# Altium footprint library con-leotronics.PCBLIB: 93 footprints (part 1 of 8)
Each footprint in its own frame and in the unit in brackets; x right, y up, seen from the top. Pads: shape width x height; smd on the part's side, far side on the other; paste and mask are expansions set on the pad; w line width, h text height; cw(c..) or ccw(c..) is an arc to the next point about the centre after c.
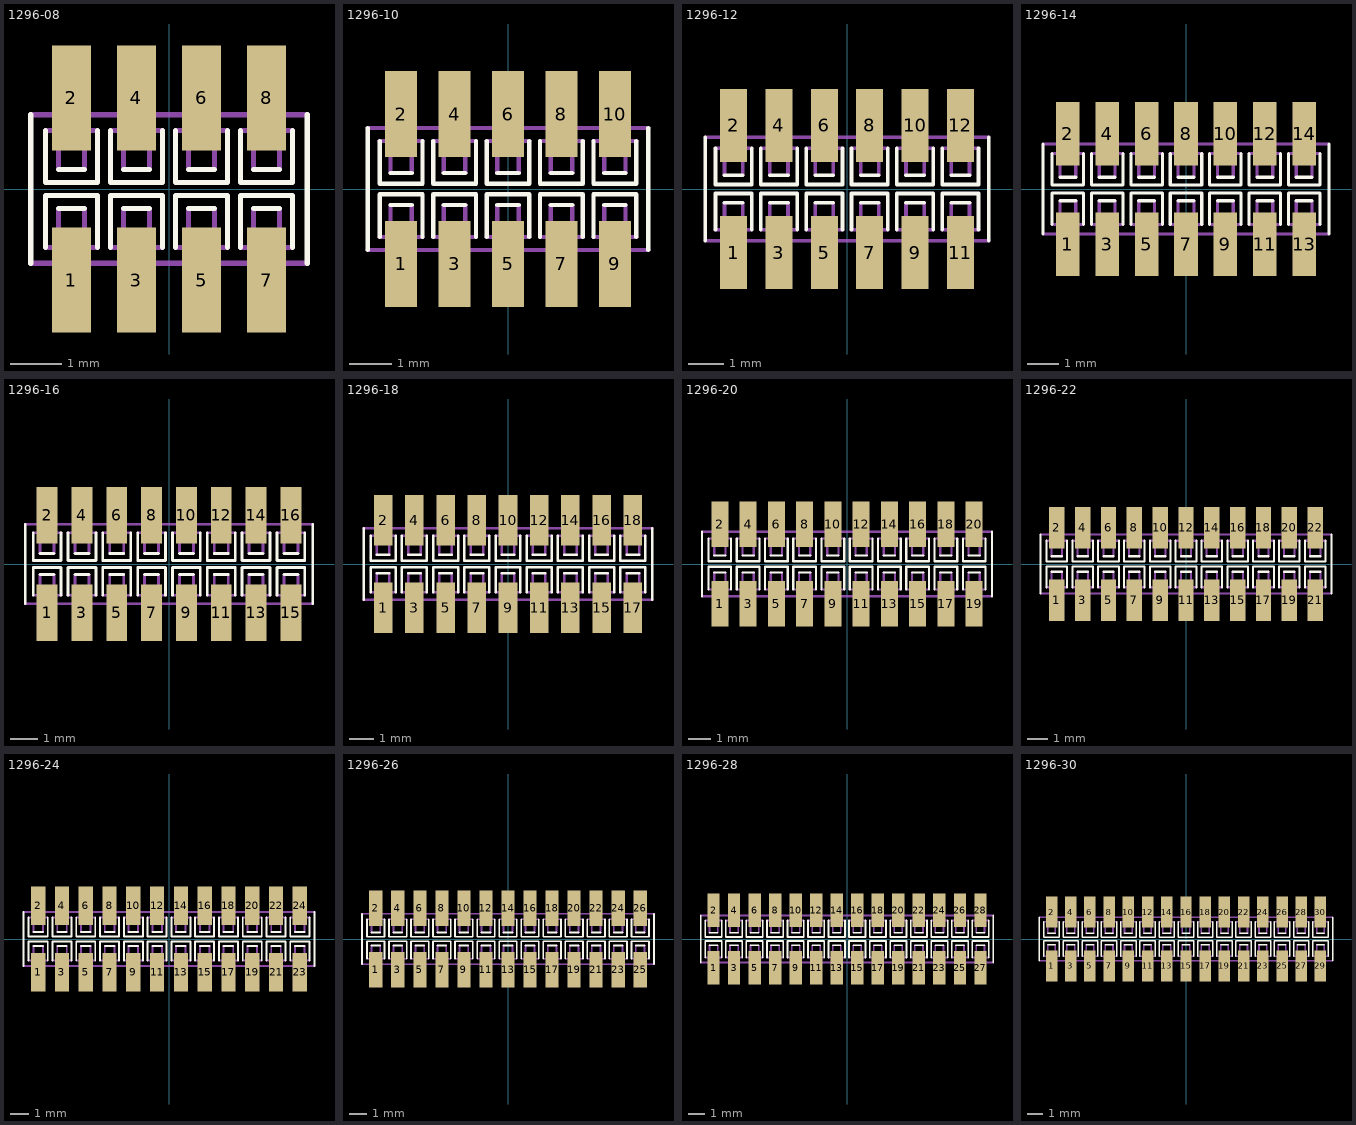
[diagram p0: the footprints below, top view; thin cyan lines are the x and y axes]

## 1296-08 [mm]
pads (8):
  rect 0.76x2.05 smd: 1(-1.905,-1.78) 2(-1.905,1.78) 3(-0.635,-1.78) 4(-0.635,1.78) 5(0.635,-1.78) 6(0.635,1.78) 7(1.905,-1.78) 8(1.905,1.78)
Top Overlay:
  lines w0.102: -2.7,-1.45 -2.7,1.45 ; -2.413,-1.143 -2.413,-0.127 -1.397,-0.127 -1.397,-1.143 ; -2.413,1.143 -2.413,0.127 -1.397,0.127 -1.397,1.143 ; -2.159,-0.381 -1.651,-0.381 ; -2.159,0.381 -1.651,0.381 ; -1.143,-1.143 -1.143,-0.127 -0.127,-0.127 -0.127,-1.143 ; -1.143,1.143 -1.143,0.127 -0.127,0.127 -0.127,1.143 ; -0.889,-0.381 -0.381,-0.381 ; -0.889,0.381 -0.381,0.381 ; 0.127,-1.143 0.127,-0.127 1.143,-0.127 1.143,-1.143 ; 0.127,1.143 0.127,0.127 1.143,0.127 1.143,1.143 ; 0.381,-0.381 0.889,-0.381 ; 0.381,0.381 0.889,0.381 ; 1.397,-1.143 1.397,-0.127 2.413,-0.127 2.413,-1.143 ; 1.397,1.143 1.397,0.127 2.413,0.127 2.413,1.143 ; 1.651,-0.381 2.159,-0.381 ; 1.651,0.381 2.159,0.381 ; 2.7,-1.45 2.7,1.45
Mechanical 16:
  lines w0.102: -2.7,-1.45 2.7,-1.45 ; -2.7,1.45 2.7,1.45 ; -2.413,-1.143 -1.397,-1.143 ; -2.413,1.143 -1.397,1.143 ; -2.159,-0.381 -2.159,-0.889 -1.651,-0.889 -1.651,-0.381 ; -2.159,0.381 -2.159,0.889 -1.651,0.889 -1.651,0.381 ; -1.143,-1.143 -0.127,-1.143 ; -1.143,1.143 -0.127,1.143 ; -0.889,-0.381 -0.889,-0.889 -0.381,-0.889 -0.381,-0.381 ; -0.889,0.381 -0.889,0.889 -0.381,0.889 -0.381,0.381 ; 0.127,-1.143 1.143,-1.143 ; 0.127,1.143 1.143,1.143 ; 0.381,-0.381 0.381,-0.889 0.889,-0.889 0.889,-0.381 ; 0.381,0.381 0.381,0.889 0.889,0.889 0.889,0.381 ; 1.397,-1.143 2.413,-1.143 ; 1.397,1.143 2.413,1.143 ; 1.651,-0.381 1.651,-0.889 2.159,-0.889 2.159,-0.381 ; 1.651,0.381 1.651,0.889 2.159,0.889 2.159,0.381

## 1296-10 [mm]
pads (10):
  rect 0.76x2.05 smd: 1(-2.54,-1.78) 2(-2.54,1.78) 3(-1.27,-1.78) 4(-1.27,1.78) 5(0,-1.78) 6(0,1.78) 7(1.27,-1.78) 8(1.27,1.78) 9(2.54,-1.78) 10(2.54,1.78)
Top Overlay:
  lines w0.102: -3.335,-1.45 -3.335,1.45 ; -3.048,-1.143 -3.048,-0.127 -2.032,-0.127 -2.032,-1.143 ; -3.048,1.143 -3.048,0.127 -2.032,0.127 -2.032,1.143 ; -2.794,-0.381 -2.286,-0.381 ; -2.794,0.381 -2.286,0.381 ; -1.778,-1.143 -1.778,-0.127 -0.762,-0.127 -0.762,-1.143 ; -1.778,1.143 -1.778,0.127 -0.762,0.127 -0.762,1.143 ; -1.524,-0.381 -1.016,-0.381 ; -1.524,0.381 -1.016,0.381 ; -0.508,-1.143 -0.508,-0.127 0.508,-0.127 0.508,-1.143 ; -0.508,1.143 -0.508,0.127 0.508,0.127 0.508,1.143 ; -0.254,-0.381 0.254,-0.381 ; -0.254,0.381 0.254,0.381 ; 0.762,-1.143 0.762,-0.127 1.778,-0.127 1.778,-1.143 ; 0.762,1.143 0.762,0.127 1.778,0.127 1.778,1.143 ; 1.016,-0.381 1.524,-0.381 ; 1.016,0.381 1.524,0.381 ; 2.032,-1.143 2.032,-0.127 3.048,-0.127 3.048,-1.143 ; 2.032,1.143 2.032,0.127 3.048,0.127 3.048,1.143 ; 2.286,-0.381 2.794,-0.381 ; 2.286,0.381 2.794,0.381 ; 3.335,-1.45 3.335,1.45
Mechanical 16:
  lines w0.102: -3.335,-1.45 3.335,-1.45 ; -3.335,1.45 3.335,1.45 ; -3.048,-1.143 -2.032,-1.143 ; -3.048,1.143 -2.032,1.143 ; -2.794,-0.381 -2.794,-0.889 -2.286,-0.889 -2.286,-0.381 ; -2.794,0.381 -2.794,0.889 -2.286,0.889 -2.286,0.381 ; -1.778,-1.143 -0.762,-1.143 ; -1.778,1.143 -0.762,1.143 ; -1.524,-0.381 -1.524,-0.889 -1.016,-0.889 -1.016,-0.381 ; -1.524,0.381 -1.524,0.889 -1.016,0.889 -1.016,0.381 ; -0.508,-1.143 0.508,-1.143 ; -0.508,1.143 0.508,1.143 ; -0.254,-0.381 -0.254,-0.889 0.254,-0.889 0.254,-0.381 ; -0.254,0.381 -0.254,0.889 0.254,0.889 0.254,0.381 ; 0.762,-1.143 1.778,-1.143 ; 0.762,1.143 1.778,1.143 ; 1.016,-0.381 1.016,-0.889 1.524,-0.889 1.524,-0.381 ; 1.016,0.381 1.016,0.889 1.524,0.889 1.524,0.381 ; 2.032,-1.143 3.048,-1.143 ; 2.032,1.143 3.048,1.143 ; 2.286,-0.381 2.286,-0.889 2.794,-0.889 2.794,-0.381 ; 2.286,0.381 2.286,0.889 2.794,0.889 2.794,0.381

## 1296-12 [mm]
pads (12):
  rect 0.76x2.05 smd: 1(-3.175,-1.78) 2(-3.175,1.78) 3(-1.905,-1.78) 4(-1.905,1.78) 5(-0.635,-1.78) 6(-0.635,1.78) 7(0.635,-1.78) 8(0.635,1.78) 9(1.905,-1.78) 10(1.905,1.78) 11(3.175,-1.78) 12(3.175,1.78)
Top Overlay:
  lines w0.102: -3.97,-1.45 -3.97,1.45 ; -3.683,-1.143 -3.683,-0.127 -2.667,-0.127 -2.667,-1.143 ; -3.683,1.143 -3.683,0.127 -2.667,0.127 -2.667,1.143 ; -3.429,-0.381 -2.921,-0.381 ; -3.429,0.381 -2.921,0.381 ; -2.413,-1.143 -2.413,-0.127 -1.397,-0.127 -1.397,-1.143 ; -2.413,1.143 -2.413,0.127 -1.397,0.127 -1.397,1.143 ; -2.159,-0.381 -1.651,-0.381 ; -2.159,0.381 -1.651,0.381 ; -1.143,-1.143 -1.143,-0.127 -0.127,-0.127 -0.127,-1.143 ; -1.143,1.143 -1.143,0.127 -0.127,0.127 -0.127,1.143 ; -0.889,-0.381 -0.381,-0.381 ; -0.889,0.381 -0.381,0.381 ; 0.127,-1.143 0.127,-0.127 1.143,-0.127 1.143,-1.143 ; 0.127,1.143 0.127,0.127 1.143,0.127 1.143,1.143 ; 0.381,-0.381 0.889,-0.381 ; 0.381,0.381 0.889,0.381 ; 1.397,-1.143 1.397,-0.127 2.413,-0.127 2.413,-1.143 ; 1.397,1.143 1.397,0.127 2.413,0.127 2.413,1.143 ; 1.651,-0.381 2.159,-0.381 ; 1.651,0.381 2.159,0.381 ; 2.667,-1.143 2.667,-0.127 3.683,-0.127 3.683,-1.143 ; 2.667,1.143 2.667,0.127 3.683,0.127 3.683,1.143 ; 2.921,-0.381 3.429,-0.381 ; 2.921,0.381 3.429,0.381 ; 3.97,-1.45 3.97,1.45
Mechanical 16:
  lines w0.102: -3.97,-1.45 3.97,-1.45 ; -3.97,1.45 3.97,1.45 ; -3.683,-1.143 -2.667,-1.143 ; -3.683,1.143 -2.667,1.143 ; -3.429,-0.381 -3.429,-0.889 -2.921,-0.889 -2.921,-0.381 ; -3.429,0.381 -3.429,0.889 -2.921,0.889 -2.921,0.381 ; -2.413,-1.143 -1.397,-1.143 ; -2.413,1.143 -1.397,1.143 ; -2.159,-0.381 -2.159,-0.889 -1.651,-0.889 -1.651,-0.381 ; -2.159,0.381 -2.159,0.889 -1.651,0.889 -1.651,0.381 ; -1.143,-1.143 -0.127,-1.143 ; -1.143,1.143 -0.127,1.143 ; -0.889,-0.381 -0.889,-0.889 -0.381,-0.889 -0.381,-0.381 ; -0.889,0.381 -0.889,0.889 -0.381,0.889 -0.381,0.381 ; 0.127,-1.143 1.143,-1.143 ; 0.127,1.143 1.143,1.143 ; 0.381,-0.381 0.381,-0.889 0.889,-0.889 0.889,-0.381 ; 0.381,0.381 0.381,0.889 0.889,0.889 0.889,0.381 ; 1.397,-1.143 2.413,-1.143 ; 1.397,1.143 2.413,1.143 ; 1.651,-0.381 1.651,-0.889 2.159,-0.889 2.159,-0.381 ; 1.651,0.381 1.651,0.889 2.159,0.889 2.159,0.381 ; 2.667,-1.143 3.683,-1.143 ; 2.667,1.143 3.683,1.143 ; 2.921,-0.381 2.921,-0.889 3.429,-0.889 3.429,-0.381 ; 2.921,0.381 2.921,0.889 3.429,0.889 3.429,0.381

## 1296-14 [mm]
pads (14):
  rect 0.76x2.05 smd: 1(-3.81,-1.78) 2(-3.81,1.78) 3(-2.54,-1.78) 4(-2.54,1.78) 5(-1.27,-1.78) 6(-1.27,1.78) 7(0,-1.78) 8(0,1.78) 9(1.27,-1.78) 10(1.27,1.78) 11(2.54,-1.78) 12(2.54,1.78) 13(3.81,-1.78) 14(3.81,1.78)
Top Overlay:
  lines w0.102: -4.605,-1.45 -4.605,1.45 ; -4.318,-1.143 -4.318,-0.127 -3.302,-0.127 -3.302,-1.143 ; -4.318,1.143 -4.318,0.127 -3.302,0.127 -3.302,1.143 ; -4.064,-0.381 -3.556,-0.381 ; -4.064,0.381 -3.556,0.381 ; -3.048,-1.143 -3.048,-0.127 -2.032,-0.127 -2.032,-1.143 ; -3.048,1.143 -3.048,0.127 -2.032,0.127 -2.032,1.143 ; -2.794,-0.381 -2.286,-0.381 ; -2.794,0.381 -2.286,0.381 ; -1.778,-1.143 -1.778,-0.127 -0.762,-0.127 -0.762,-1.143 ; -1.778,1.143 -1.778,0.127 -0.762,0.127 -0.762,1.143 ; -1.524,-0.381 -1.016,-0.381 ; -1.524,0.381 -1.016,0.381 ; -0.508,-1.143 -0.508,-0.127 0.508,-0.127 0.508,-1.143 ; -0.508,1.143 -0.508,0.127 0.508,0.127 0.508,1.143 ; -0.254,-0.381 0.254,-0.381 ; -0.254,0.381 0.254,0.381 ; 0.762,-1.143 0.762,-0.127 1.778,-0.127 1.778,-1.143 ; 0.762,1.143 0.762,0.127 1.778,0.127 1.778,1.143 ; 1.016,-0.381 1.524,-0.381 ; 1.016,0.381 1.524,0.381 ; 2.032,-1.143 2.032,-0.127 3.048,-0.127 3.048,-1.143 ; 2.032,1.143 2.032,0.127 3.048,0.127 3.048,1.143 ; 2.286,-0.381 2.794,-0.381 ; 2.286,0.381 2.794,0.381 ; 3.302,-1.143 3.302,-0.127 4.318,-0.127 4.318,-1.143 ; 3.302,1.143 3.302,0.127 4.318,0.127 4.318,1.143 ; 3.556,-0.381 4.064,-0.381 ; 3.556,0.381 4.064,0.381 ; 4.605,-1.45 4.605,1.45
Mechanical 16:
  lines w0.102: -4.605,-1.45 4.605,-1.45 ; -4.605,1.45 4.605,1.45 ; -4.318,-1.143 -3.302,-1.143 ; -4.318,1.143 -3.302,1.143 ; -4.064,-0.381 -4.064,-0.889 -3.556,-0.889 -3.556,-0.381 ; -4.064,0.381 -4.064,0.889 -3.556,0.889 -3.556,0.381 ; -3.048,-1.143 -2.032,-1.143 ; -3.048,1.143 -2.032,1.143 ; -2.794,-0.381 -2.794,-0.889 -2.286,-0.889 -2.286,-0.381 ; -2.794,0.381 -2.794,0.889 -2.286,0.889 -2.286,0.381 ; -1.778,-1.143 -0.762,-1.143 ; -1.778,1.143 -0.762,1.143 ; -1.524,-0.381 -1.524,-0.889 -1.016,-0.889 -1.016,-0.381 ; -1.524,0.381 -1.524,0.889 -1.016,0.889 -1.016,0.381 ; -0.508,-1.143 0.508,-1.143 ; -0.508,1.143 0.508,1.143 ; -0.254,-0.381 -0.254,-0.889 0.254,-0.889 0.254,-0.381 ; -0.254,0.381 -0.254,0.889 0.254,0.889 0.254,0.381 ; 0.762,-1.143 1.778,-1.143 ; 0.762,1.143 1.778,1.143 ; 1.016,-0.381 1.016,-0.889 1.524,-0.889 1.524,-0.381 ; 1.016,0.381 1.016,0.889 1.524,0.889 1.524,0.381 ; 2.032,-1.143 3.048,-1.143 ; 2.032,1.143 3.048,1.143 ; 2.286,-0.381 2.286,-0.889 2.794,-0.889 2.794,-0.381 ; 2.286,0.381 2.286,0.889 2.794,0.889 2.794,0.381 ; 3.302,-1.143 4.318,-1.143 ; 3.302,1.143 4.318,1.143 ; 3.556,-0.381 3.556,-0.889 4.064,-0.889 4.064,-0.381 ; 3.556,0.381 3.556,0.889 4.064,0.889 4.064,0.381

## 1296-16 [mm]
pads (16):
  rect 0.76x2.05 smd: 1(-4.445,-1.78) 2(-4.445,1.78) 3(-3.175,-1.78) 4(-3.175,1.78) 5(-1.905,-1.78) 6(-1.905,1.78) 7(-0.635,-1.78) 8(-0.635,1.78) 9(0.635,-1.78) 10(0.635,1.78) 11(1.905,-1.78) 12(1.905,1.78) 13(3.175,-1.78) 14(3.175,1.78) 15(4.445,-1.78) 16(4.445,1.78)
Top Overlay:
  lines w0.102: -5.24,-1.45 -5.24,1.45 ; -4.953,-1.143 -4.953,-0.127 -3.937,-0.127 -3.937,-1.143 ; -4.953,1.143 -4.953,0.127 -3.937,0.127 -3.937,1.143 ; -4.699,-0.381 -4.191,-0.381 ; -4.699,0.381 -4.191,0.381 ; -3.683,-1.143 -3.683,-0.127 -2.667,-0.127 -2.667,-1.143 ; -3.683,1.143 -3.683,0.127 -2.667,0.127 -2.667,1.143 ; -3.429,-0.381 -2.921,-0.381 ; -3.429,0.381 -2.921,0.381 ; -2.413,-1.143 -2.413,-0.127 -1.397,-0.127 -1.397,-1.143 ; -2.413,1.143 -2.413,0.127 -1.397,0.127 -1.397,1.143 ; -2.159,-0.381 -1.651,-0.381 ; -2.159,0.381 -1.651,0.381 ; -1.143,-1.143 -1.143,-0.127 -0.127,-0.127 -0.127,-1.143 ; -1.143,1.143 -1.143,0.127 -0.127,0.127 -0.127,1.143 ; -0.889,-0.381 -0.381,-0.381 ; -0.889,0.381 -0.381,0.381 ; 0.127,-1.143 0.127,-0.127 1.143,-0.127 1.143,-1.143 ; 0.127,1.143 0.127,0.127 1.143,0.127 1.143,1.143 ; 0.381,-0.381 0.889,-0.381 ; 0.381,0.381 0.889,0.381 ; 1.397,-1.143 1.397,-0.127 2.413,-0.127 2.413,-1.143 ; 1.397,1.143 1.397,0.127 2.413,0.127 2.413,1.143 ; 1.651,-0.381 2.159,-0.381 ; 1.651,0.381 2.159,0.381 ; 2.667,-1.143 2.667,-0.127 3.683,-0.127 3.683,-1.143 ; 2.667,1.143 2.667,0.127 3.683,0.127 3.683,1.143 ; 2.921,-0.381 3.429,-0.381 ; 2.921,0.381 3.429,0.381 ; 3.937,-1.143 3.937,-0.127 4.953,-0.127 4.953,-1.143 ; 3.937,1.143 3.937,0.127 4.953,0.127 4.953,1.143 ; 4.191,-0.381 4.699,-0.381 ; 4.191,0.381 4.699,0.381 ; 5.24,-1.45 5.24,1.45
Mechanical 16:
  lines w0.102: -5.24,-1.45 5.24,-1.45 ; -5.24,1.45 5.24,1.45 ; -4.953,-1.143 -3.937,-1.143 ; -4.953,1.143 -3.937,1.143 ; -4.699,-0.381 -4.699,-0.889 -4.191,-0.889 -4.191,-0.381 ; -4.699,0.381 -4.699,0.889 -4.191,0.889 -4.191,0.381 ; -3.683,-1.143 -2.667,-1.143 ; -3.683,1.143 -2.667,1.143 ; -3.429,-0.381 -3.429,-0.889 -2.921,-0.889 -2.921,-0.381 ; -3.429,0.381 -3.429,0.889 -2.921,0.889 -2.921,0.381 ; -2.413,-1.143 -1.397,-1.143 ; -2.413,1.143 -1.397,1.143 ; -2.159,-0.381 -2.159,-0.889 -1.651,-0.889 -1.651,-0.381 ; -2.159,0.381 -2.159,0.889 -1.651,0.889 -1.651,0.381 ; -1.143,-1.143 -0.127,-1.143 ; -1.143,1.143 -0.127,1.143 ; -0.889,-0.381 -0.889,-0.889 -0.381,-0.889 -0.381,-0.381 ; -0.889,0.381 -0.889,0.889 -0.381,0.889 -0.381,0.381 ; 0.127,-1.143 1.143,-1.143 ; 0.127,1.143 1.143,1.143 ; 0.381,-0.381 0.381,-0.889 0.889,-0.889 0.889,-0.381 ; 0.381,0.381 0.381,0.889 0.889,0.889 0.889,0.381 ; 1.397,-1.143 2.413,-1.143 ; 1.397,1.143 2.413,1.143 ; 1.651,-0.381 1.651,-0.889 2.159,-0.889 2.159,-0.381 ; 1.651,0.381 1.651,0.889 2.159,0.889 2.159,0.381 ; 2.667,-1.143 3.683,-1.143 ; 2.667,1.143 3.683,1.143 ; 2.921,-0.381 2.921,-0.889 3.429,-0.889 3.429,-0.381 ; 2.921,0.381 2.921,0.889 3.429,0.889 3.429,0.381 ; 3.937,-1.143 4.953,-1.143 ; 3.937,1.143 4.953,1.143 ; 4.191,-0.381 4.191,-0.889 4.699,-0.889 4.699,-0.381 ; 4.191,0.381 4.191,0.889 4.699,0.889 4.699,0.381

## 1296-18 [mm]
pads (18):
  rect 0.76x2.05 smd: 1(-5.08,-1.78) 2(-5.08,1.78) 3(-3.81,-1.78) 4(-3.81,1.78) 5(-2.54,-1.78) 6(-2.54,1.78) 7(-1.27,-1.78) 8(-1.27,1.78) 9(0,-1.78) 10(0,1.78) 11(1.27,-1.78) 12(1.27,1.78) 13(2.54,-1.78) 14(2.54,1.78) 15(3.81,-1.78) 16(3.81,1.78) 17(5.08,-1.78) 18(5.08,1.78)
Top Overlay:
  lines w0.102: -5.875,-1.45 -5.875,1.45 ; -5.588,-1.143 -5.588,-0.127 -4.572,-0.127 -4.572,-1.143 ; -5.588,1.143 -5.588,0.127 -4.572,0.127 -4.572,1.143 ; -5.334,-0.381 -4.826,-0.381 ; -5.334,0.381 -4.826,0.381 ; -4.318,-1.143 -4.318,-0.127 -3.302,-0.127 -3.302,-1.143 ; -4.318,1.143 -4.318,0.127 -3.302,0.127 -3.302,1.143 ; -4.064,-0.381 -3.556,-0.381 ; -4.064,0.381 -3.556,0.381 ; -3.048,-1.143 -3.048,-0.127 -2.032,-0.127 -2.032,-1.143 ; -3.048,1.143 -3.048,0.127 -2.032,0.127 -2.032,1.143 ; -2.794,-0.381 -2.286,-0.381 ; -2.794,0.381 -2.286,0.381 ; -1.778,-1.143 -1.778,-0.127 -0.762,-0.127 -0.762,-1.143 ; -1.778,1.143 -1.778,0.127 -0.762,0.127 -0.762,1.143 ; -1.524,-0.381 -1.016,-0.381 ; -1.524,0.381 -1.016,0.381 ; -0.508,-1.143 -0.508,-0.127 0.508,-0.127 0.508,-1.143 ; -0.508,1.143 -0.508,0.127 0.508,0.127 0.508,1.143 ; -0.254,-0.381 0.254,-0.381 ; -0.254,0.381 0.254,0.381 ; 0.762,-1.143 0.762,-0.127 1.778,-0.127 1.778,-1.143 ; 0.762,1.143 0.762,0.127 1.778,0.127 1.778,1.143 ; 1.016,-0.381 1.524,-0.381 ; 1.016,0.381 1.524,0.381 ; 2.032,-1.143 2.032,-0.127 3.048,-0.127 3.048,-1.143 ; 2.032,1.143 2.032,0.127 3.048,0.127 3.048,1.143 ; 2.286,-0.381 2.794,-0.381 ; 2.286,0.381 2.794,0.381 ; 3.302,-1.143 3.302,-0.127 4.318,-0.127 4.318,-1.143 ; 3.302,1.143 3.302,0.127 4.318,0.127 4.318,1.143 ; 3.556,-0.381 4.064,-0.381 ; 3.556,0.381 4.064,0.381 ; 4.572,-1.143 4.572,-0.127 5.588,-0.127 5.588,-1.143 ; 4.572,1.143 4.572,0.127 5.588,0.127 5.588,1.143 ; 4.826,-0.381 5.334,-0.381 ; 4.826,0.381 5.334,0.381 ; 5.875,-1.45 5.875,1.45
Mechanical 16:
  lines w0.102: -5.875,-1.45 5.875,-1.45 ; -5.875,1.45 5.875,1.45 ; -5.588,-1.143 -4.572,-1.143 ; -5.588,1.143 -4.572,1.143 ; -5.334,-0.381 -5.334,-0.889 -4.826,-0.889 -4.826,-0.381 ; -5.334,0.381 -5.334,0.889 -4.826,0.889 -4.826,0.381 ; -4.318,-1.143 -3.302,-1.143 ; -4.318,1.143 -3.302,1.143 ; -4.064,-0.381 -4.064,-0.889 -3.556,-0.889 -3.556,-0.381 ; -4.064,0.381 -4.064,0.889 -3.556,0.889 -3.556,0.381 ; -3.048,-1.143 -2.032,-1.143 ; -3.048,1.143 -2.032,1.143 ; -2.794,-0.381 -2.794,-0.889 -2.286,-0.889 -2.286,-0.381 ; -2.794,0.381 -2.794,0.889 -2.286,0.889 -2.286,0.381 ; -1.778,-1.143 -0.762,-1.143 ; -1.778,1.143 -0.762,1.143 ; -1.524,-0.381 -1.524,-0.889 -1.016,-0.889 -1.016,-0.381 ; -1.524,0.381 -1.524,0.889 -1.016,0.889 -1.016,0.381 ; -0.508,-1.143 0.508,-1.143 ; -0.508,1.143 0.508,1.143 ; -0.254,-0.381 -0.254,-0.889 0.254,-0.889 0.254,-0.381 ; -0.254,0.381 -0.254,0.889 0.254,0.889 0.254,0.381 ; 0.762,-1.143 1.778,-1.143 ; 0.762,1.143 1.778,1.143 ; 1.016,-0.381 1.016,-0.889 1.524,-0.889 1.524,-0.381 ; 1.016,0.381 1.016,0.889 1.524,0.889 1.524,0.381 ; 2.032,-1.143 3.048,-1.143 ; 2.032,1.143 3.048,1.143 ; 2.286,-0.381 2.286,-0.889 2.794,-0.889 2.794,-0.381 ; 2.286,0.381 2.286,0.889 2.794,0.889 2.794,0.381 ; 3.302,-1.143 4.318,-1.143 ; 3.302,1.143 4.318,1.143 ; 3.556,-0.381 3.556,-0.889 4.064,-0.889 4.064,-0.381 ; 3.556,0.381 3.556,0.889 4.064,0.889 4.064,0.381 ; 4.572,-1.143 5.588,-1.143 ; 4.572,1.143 5.588,1.143 ; 4.826,-0.381 4.826,-0.889 5.334,-0.889 5.334,-0.381 ; 4.826,0.381 4.826,0.889 5.334,0.889 5.334,0.381

## 1296-20 [mm]
pads (20):
  rect 0.76x2.05 smd: 1(-5.715,-1.78) 2(-5.715,1.78) 3(-4.445,-1.78) 4(-4.445,1.78) 5(-3.175,-1.78) 6(-3.175,1.78) 7(-1.905,-1.78) 8(-1.905,1.78) 9(-0.635,-1.78) 10(-0.635,1.78) 11(0.635,-1.78) 12(0.635,1.78) 13(1.905,-1.78) 14(1.905,1.78) 15(3.175,-1.78) 16(3.175,1.78) 17(4.445,-1.78) 18(4.445,1.78) 19(5.715,-1.78) 20(5.715,1.78)
Top Overlay:
  lines w0.102: -6.51,-1.45 -6.51,1.45 ; -6.223,-1.143 -6.223,-0.127 -5.207,-0.127 -5.207,-1.143 ; -6.223,1.143 -6.223,0.127 -5.207,0.127 -5.207,1.143 ; -5.969,-0.381 -5.461,-0.381 ; -5.969,0.381 -5.461,0.381 ; -4.953,-1.143 -4.953,-0.127 -3.937,-0.127 -3.937,-1.143 ; -4.953,1.143 -4.953,0.127 -3.937,0.127 -3.937,1.143 ; -4.699,-0.381 -4.191,-0.381 ; -4.699,0.381 -4.191,0.381 ; -3.683,-1.143 -3.683,-0.127 -2.667,-0.127 -2.667,-1.143 ; -3.683,1.143 -3.683,0.127 -2.667,0.127 -2.667,1.143 ; -3.429,-0.381 -2.921,-0.381 ; -3.429,0.381 -2.921,0.381 ; -2.413,-1.143 -2.413,-0.127 -1.397,-0.127 -1.397,-1.143 ; -2.413,1.143 -2.413,0.127 -1.397,0.127 -1.397,1.143 ; -2.159,-0.381 -1.651,-0.381 ; -2.159,0.381 -1.651,0.381 ; -1.143,-1.143 -1.143,-0.127 -0.127,-0.127 -0.127,-1.143 ; -1.143,1.143 -1.143,0.127 -0.127,0.127 -0.127,1.143 ; -0.889,-0.381 -0.381,-0.381 ; -0.889,0.381 -0.381,0.381 ; 0.127,-1.143 0.127,-0.127 1.143,-0.127 1.143,-1.143 ; 0.127,1.143 0.127,0.127 1.143,0.127 1.143,1.143 ; 0.381,-0.381 0.889,-0.381 ; 0.381,0.381 0.889,0.381 ; 1.397,-1.143 1.397,-0.127 2.413,-0.127 2.413,-1.143 ; 1.397,1.143 1.397,0.127 2.413,0.127 2.413,1.143 ; 1.651,-0.381 2.159,-0.381 ; 1.651,0.381 2.159,0.381 ; 2.667,-1.143 2.667,-0.127 3.683,-0.127 3.683,-1.143 ; 2.667,1.143 2.667,0.127 3.683,0.127 3.683,1.143 ; 2.921,-0.381 3.429,-0.381 ; 2.921,0.381 3.429,0.381 ; 3.937,-1.143 3.937,-0.127 4.953,-0.127 4.953,-1.143 ; 3.937,1.143 3.937,0.127 4.953,0.127 4.953,1.143 ; 4.191,-0.381 4.699,-0.381 ; 4.191,0.381 4.699,0.381 ; 5.207,-1.143 5.207,-0.127 6.223,-0.127 6.223,-1.143 ; 5.207,1.143 5.207,0.127 6.223,0.127 6.223,1.143 ; 5.461,-0.381 5.969,-0.381 ; 5.461,0.381 5.969,0.381 ; 6.51,-1.45 6.51,1.45
Mechanical 16:
  lines w0.102: -6.51,-1.45 6.51,-1.45 ; -6.51,1.45 6.51,1.45 ; -6.223,-1.143 -5.207,-1.143 ; -6.223,1.143 -5.207,1.143 ; -5.969,-0.381 -5.969,-0.889 -5.461,-0.889 -5.461,-0.381 ; -5.969,0.381 -5.969,0.889 -5.461,0.889 -5.461,0.381 ; -4.953,-1.143 -3.937,-1.143 ; -4.953,1.143 -3.937,1.143 ; -4.699,-0.381 -4.699,-0.889 -4.191,-0.889 -4.191,-0.381 ; -4.699,0.381 -4.699,0.889 -4.191,0.889 -4.191,0.381 ; -3.683,-1.143 -2.667,-1.143 ; -3.683,1.143 -2.667,1.143 ; -3.429,-0.381 -3.429,-0.889 -2.921,-0.889 -2.921,-0.381 ; -3.429,0.381 -3.429,0.889 -2.921,0.889 -2.921,0.381 ; -2.413,-1.143 -1.397,-1.143 ; -2.413,1.143 -1.397,1.143 ; -2.159,-0.381 -2.159,-0.889 -1.651,-0.889 -1.651,-0.381 ; -2.159,0.381 -2.159,0.889 -1.651,0.889 -1.651,0.381 ; -1.143,-1.143 -0.127,-1.143 ; -1.143,1.143 -0.127,1.143 ; -0.889,-0.381 -0.889,-0.889 -0.381,-0.889 -0.381,-0.381 ; -0.889,0.381 -0.889,0.889 -0.381,0.889 -0.381,0.381 ; 0.127,-1.143 1.143,-1.143 ; 0.127,1.143 1.143,1.143 ; 0.381,-0.381 0.381,-0.889 0.889,-0.889 0.889,-0.381 ; 0.381,0.381 0.381,0.889 0.889,0.889 0.889,0.381 ; 1.397,-1.143 2.413,-1.143 ; 1.397,1.143 2.413,1.143 ; 1.651,-0.381 1.651,-0.889 2.159,-0.889 2.159,-0.381 ; 1.651,0.381 1.651,0.889 2.159,0.889 2.159,0.381 ; 2.667,-1.143 3.683,-1.143 ; 2.667,1.143 3.683,1.143 ; 2.921,-0.381 2.921,-0.889 3.429,-0.889 3.429,-0.381 ; 2.921,0.381 2.921,0.889 3.429,0.889 3.429,0.381 ; 3.937,-1.143 4.953,-1.143 ; 3.937,1.143 4.953,1.143 ; 4.191,-0.381 4.191,-0.889 4.699,-0.889 4.699,-0.381 ; 4.191,0.381 4.191,0.889 4.699,0.889 4.699,0.381 ; 5.207,-1.143 6.223,-1.143 ; 5.207,1.143 6.223,1.143 ; 5.461,-0.381 5.461,-0.889 5.969,-0.889 5.969,-0.381 ; 5.461,0.381 5.461,0.889 5.969,0.889 5.969,0.381

## 1296-22 [mm]
pads (22):
  rect 0.76x2.05 smd: 1(-6.35,-1.78) 2(-6.35,1.78) 3(-5.08,-1.78) 4(-5.08,1.78) 5(-3.81,-1.78) 6(-3.81,1.78) 7(-2.54,-1.78) 8(-2.54,1.78) 9(-1.27,-1.78) 10(-1.27,1.78) 11(0,-1.78) 12(0,1.78) 13(1.27,-1.78) 14(1.27,1.78) 15(2.54,-1.78) 16(2.54,1.78) 17(3.81,-1.78) 18(3.81,1.78) 19(5.08,-1.78) 20(5.08,1.78) 21(6.35,-1.78) 22(6.35,1.78)
Top Overlay:
  lines w0.102: -7.145,-1.45 -7.145,1.45 ; -6.858,-1.143 -6.858,-0.127 -5.842,-0.127 -5.842,-1.143 ; -6.858,1.143 -6.858,0.127 -5.842,0.127 -5.842,1.143 ; -6.604,-0.381 -6.096,-0.381 ; -6.604,0.381 -6.096,0.381 ; -5.588,-1.143 -5.588,-0.127 -4.572,-0.127 -4.572,-1.143 ; -5.588,1.143 -5.588,0.127 -4.572,0.127 -4.572,1.143 ; -5.334,-0.381 -4.826,-0.381 ; -5.334,0.381 -4.826,0.381 ; -4.318,-1.143 -4.318,-0.127 -3.302,-0.127 -3.302,-1.143 ; -4.318,1.143 -4.318,0.127 -3.302,0.127 -3.302,1.143 ; -4.064,-0.381 -3.556,-0.381 ; -4.064,0.381 -3.556,0.381 ; -3.048,-1.143 -3.048,-0.127 -2.032,-0.127 -2.032,-1.143 ; -3.048,1.143 -3.048,0.127 -2.032,0.127 -2.032,1.143 ; -2.794,-0.381 -2.286,-0.381 ; -2.794,0.381 -2.286,0.381 ; -1.778,-1.143 -1.778,-0.127 -0.762,-0.127 -0.762,-1.143 ; -1.778,1.143 -1.778,0.127 -0.762,0.127 -0.762,1.143 ; -1.524,-0.381 -1.016,-0.381 ; -1.524,0.381 -1.016,0.381 ; -0.508,-1.143 -0.508,-0.127 0.508,-0.127 0.508,-1.143 ; -0.508,1.143 -0.508,0.127 0.508,0.127 0.508,1.143 ; -0.254,-0.381 0.254,-0.381 ; -0.254,0.381 0.254,0.381 ; 0.762,-1.143 0.762,-0.127 1.778,-0.127 1.778,-1.143 ; 0.762,1.143 0.762,0.127 1.778,0.127 1.778,1.143 ; 1.016,-0.381 1.524,-0.381 ; 1.016,0.381 1.524,0.381 ; 2.032,-1.143 2.032,-0.127 3.048,-0.127 3.048,-1.143 ; 2.032,1.143 2.032,0.127 3.048,0.127 3.048,1.143 ; 2.286,-0.381 2.794,-0.381 ; 2.286,0.381 2.794,0.381 ; 3.302,-1.143 3.302,-0.127 4.318,-0.127 4.318,-1.143 ; 3.302,1.143 3.302,0.127 4.318,0.127 4.318,1.143 ; 3.556,-0.381 4.064,-0.381 ; 3.556,0.381 4.064,0.381 ; 4.572,-1.143 4.572,-0.127 5.588,-0.127 5.588,-1.143 ; 4.572,1.143 4.572,0.127 5.588,0.127 5.588,1.143 ; 4.826,-0.381 5.334,-0.381 ; 4.826,0.381 5.334,0.381 ; 5.842,-1.143 5.842,-0.127 6.858,-0.127 6.858,-1.143 ; 5.842,1.143 5.842,0.127 6.858,0.127 6.858,1.143 ; 6.096,-0.381 6.604,-0.381 ; 6.096,0.381 6.604,0.381 ; 7.145,-1.45 7.145,1.45
Mechanical 16:
  lines w0.102: -7.145,-1.45 7.145,-1.45 ; -7.145,1.45 7.145,1.45 ; -6.858,-1.143 -5.842,-1.143 ; -6.858,1.143 -5.842,1.143 ; -6.604,-0.381 -6.604,-0.889 -6.096,-0.889 -6.096,-0.381 ; -6.604,0.381 -6.604,0.889 -6.096,0.889 -6.096,0.381 ; -5.588,-1.143 -4.572,-1.143 ; -5.588,1.143 -4.572,1.143 ; -5.334,-0.381 -5.334,-0.889 -4.826,-0.889 -4.826,-0.381 ; -5.334,0.381 -5.334,0.889 -4.826,0.889 -4.826,0.381 ; -4.318,-1.143 -3.302,-1.143 ; -4.318,1.143 -3.302,1.143 ; -4.064,-0.381 -4.064,-0.889 -3.556,-0.889 -3.556,-0.381 ; -4.064,0.381 -4.064,0.889 -3.556,0.889 -3.556,0.381 ; -3.048,-1.143 -2.032,-1.143 ; -3.048,1.143 -2.032,1.143 ; -2.794,-0.381 -2.794,-0.889 -2.286,-0.889 -2.286,-0.381 ; -2.794,0.381 -2.794,0.889 -2.286,0.889 -2.286,0.381 ; -1.778,-1.143 -0.762,-1.143 ; -1.778,1.143 -0.762,1.143 ; -1.524,-0.381 -1.524,-0.889 -1.016,-0.889 -1.016,-0.381 ; -1.524,0.381 -1.524,0.889 -1.016,0.889 -1.016,0.381 ; -0.508,-1.143 0.508,-1.143 ; -0.508,1.143 0.508,1.143 ; -0.254,-0.381 -0.254,-0.889 0.254,-0.889 0.254,-0.381 ; -0.254,0.381 -0.254,0.889 0.254,0.889 0.254,0.381 ; 0.762,-1.143 1.778,-1.143 ; 0.762,1.143 1.778,1.143 ; 1.016,-0.381 1.016,-0.889 1.524,-0.889 1.524,-0.381 ; 1.016,0.381 1.016,0.889 1.524,0.889 1.524,0.381 ; 2.032,-1.143 3.048,-1.143 ; 2.032,1.143 3.048,1.143 ; 2.286,-0.381 2.286,-0.889 2.794,-0.889 2.794,-0.381 ; 2.286,0.381 2.286,0.889 2.794,0.889 2.794,0.381 ; 3.302,-1.143 4.318,-1.143 ; 3.302,1.143 4.318,1.143 ; 3.556,-0.381 3.556,-0.889 4.064,-0.889 4.064,-0.381 ; 3.556,0.381 3.556,0.889 4.064,0.889 4.064,0.381 ; 4.572,-1.143 5.588,-1.143 ; 4.572,1.143 5.588,1.143 ; 4.826,-0.381 4.826,-0.889 5.334,-0.889 5.334,-0.381 ; 4.826,0.381 4.826,0.889 5.334,0.889 5.334,0.381 ; 5.842,-1.143 6.858,-1.143 ; 5.842,1.143 6.858,1.143 ; 6.096,-0.381 6.096,-0.889 6.604,-0.889 6.604,-0.381 ; 6.096,0.381 6.096,0.889 6.604,0.889 6.604,0.381

## 1296-24 [mm]
pads (24):
  rect 0.76x2.05 smd: 1(-6.985,-1.78) 2(-6.985,1.78) 3(-5.715,-1.78) 4(-5.715,1.78) 5(-4.445,-1.78) 6(-4.445,1.78) 7(-3.175,-1.78) 8(-3.175,1.78) 9(-1.905,-1.78) 10(-1.905,1.78) 11(-0.635,-1.78) 12(-0.635,1.78) 13(0.635,-1.78) 14(0.635,1.78) 15(1.905,-1.78) 16(1.905,1.78) 17(3.175,-1.78) 18(3.175,1.78) 19(4.445,-1.78) 20(4.445,1.78) 21(5.715,-1.78) 22(5.715,1.78) 23(6.985,-1.78) 24(6.985,1.78)
Top Overlay:
  lines w0.102: -7.78,-1.45 -7.78,1.45 ; -7.493,-1.143 -7.493,-0.127 -6.477,-0.127 -6.477,-1.143 ; -7.493,1.143 -7.493,0.127 -6.477,0.127 -6.477,1.143 ; -7.239,-0.381 -6.731,-0.381 ; -7.239,0.381 -6.731,0.381 ; -6.223,-1.143 -6.223,-0.127 -5.207,-0.127 -5.207,-1.143 ; -6.223,1.143 -6.223,0.127 -5.207,0.127 -5.207,1.143 ; -5.969,-0.381 -5.461,-0.381 ; -5.969,0.381 -5.461,0.381 ; -4.953,-1.143 -4.953,-0.127 -3.937,-0.127 -3.937,-1.143 ; -4.953,1.143 -4.953,0.127 -3.937,0.127 -3.937,1.143 ; -4.699,-0.381 -4.191,-0.381 ; -4.699,0.381 -4.191,0.381 ; -3.683,-1.143 -3.683,-0.127 -2.667,-0.127 -2.667,-1.143 ; -3.683,1.143 -3.683,0.127 -2.667,0.127 -2.667,1.143 ; -3.429,-0.381 -2.921,-0.381 ; -3.429,0.381 -2.921,0.381 ; -2.413,-1.143 -2.413,-0.127 -1.397,-0.127 -1.397,-1.143 ; -2.413,1.143 -2.413,0.127 -1.397,0.127 -1.397,1.143 ; -2.159,-0.381 -1.651,-0.381 ; -2.159,0.381 -1.651,0.381 ; -1.143,-1.143 -1.143,-0.127 -0.127,-0.127 -0.127,-1.143 ; -1.143,1.143 -1.143,0.127 -0.127,0.127 -0.127,1.143 ; -0.889,-0.381 -0.381,-0.381 ; -0.889,0.381 -0.381,0.381 ; 0.127,-1.143 0.127,-0.127 1.143,-0.127 1.143,-1.143 ; 0.127,1.143 0.127,0.127 1.143,0.127 1.143,1.143 ; 0.381,-0.381 0.889,-0.381 ; 0.381,0.381 0.889,0.381 ; 1.397,-1.143 1.397,-0.127 2.413,-0.127 2.413,-1.143 ; 1.397,1.143 1.397,0.127 2.413,0.127 2.413,1.143 ; 1.651,-0.381 2.159,-0.381 ; 1.651,0.381 2.159,0.381 ; 2.667,-1.143 2.667,-0.127 3.683,-0.127 3.683,-1.143 ; 2.667,1.143 2.667,0.127 3.683,0.127 3.683,1.143 ; 2.921,-0.381 3.429,-0.381 ; 2.921,0.381 3.429,0.381 ; 3.937,-1.143 3.937,-0.127 4.953,-0.127 4.953,-1.143 ; 3.937,1.143 3.937,0.127 4.953,0.127 4.953,1.143 ; 4.191,-0.381 4.699,-0.381 ; 4.191,0.381 4.699,0.381 ; 5.207,-1.143 5.207,-0.127 6.223,-0.127 6.223,-1.143 ; 5.207,1.143 5.207,0.127 6.223,0.127 6.223,1.143 ; 5.461,-0.381 5.969,-0.381 ; 5.461,0.381 5.969,0.381 ; 6.477,-1.143 6.477,-0.127 7.493,-0.127 7.493,-1.143 ; 6.477,1.143 6.477,0.127 7.493,0.127 7.493,1.143 ; 6.731,-0.381 7.239,-0.381 ; 6.731,0.381 7.239,0.381 ; 7.78,-1.45 7.78,1.45
Mechanical 16:
  lines w0.102: -7.78,-1.45 7.78,-1.45 ; -7.78,1.45 7.78,1.45 ; -7.493,-1.143 -6.477,-1.143 ; -7.493,1.143 -6.477,1.143 ; -7.239,-0.381 -7.239,-0.889 -6.731,-0.889 -6.731,-0.381 ; -7.239,0.381 -7.239,0.889 -6.731,0.889 -6.731,0.381 ; -6.223,-1.143 -5.207,-1.143 ; -6.223,1.143 -5.207,1.143 ; -5.969,-0.381 -5.969,-0.889 -5.461,-0.889 -5.461,-0.381 ; -5.969,0.381 -5.969,0.889 -5.461,0.889 -5.461,0.381 ; -4.953,-1.143 -3.937,-1.143 ; -4.953,1.143 -3.937,1.143 ; -4.699,-0.381 -4.699,-0.889 -4.191,-0.889 -4.191,-0.381 ; -4.699,0.381 -4.699,0.889 -4.191,0.889 -4.191,0.381 ; -3.683,-1.143 -2.667,-1.143 ; -3.683,1.143 -2.667,1.143 ; -3.429,-0.381 -3.429,-0.889 -2.921,-0.889 -2.921,-0.381 ; -3.429,0.381 -3.429,0.889 -2.921,0.889 -2.921,0.381 ; -2.413,-1.143 -1.397,-1.143 ; -2.413,1.143 -1.397,1.143 ; -2.159,-0.381 -2.159,-0.889 -1.651,-0.889 -1.651,-0.381 ; -2.159,0.381 -2.159,0.889 -1.651,0.889 -1.651,0.381 ; -1.143,-1.143 -0.127,-1.143 ; -1.143,1.143 -0.127,1.143 ; -0.889,-0.381 -0.889,-0.889 -0.381,-0.889 -0.381,-0.381 ; -0.889,0.381 -0.889,0.889 -0.381,0.889 -0.381,0.381 ; 0.127,-1.143 1.143,-1.143 ; 0.127,1.143 1.143,1.143 ; 0.381,-0.381 0.381,-0.889 0.889,-0.889 0.889,-0.381 ; 0.381,0.381 0.381,0.889 0.889,0.889 0.889,0.381 ; 1.397,-1.143 2.413,-1.143 ; 1.397,1.143 2.413,1.143 ; 1.651,-0.381 1.651,-0.889 2.159,-0.889 2.159,-0.381 ; 1.651,0.381 1.651,0.889 2.159,0.889 2.159,0.381 ; 2.667,-1.143 3.683,-1.143 ; 2.667,1.143 3.683,1.143 ; 2.921,-0.381 2.921,-0.889 3.429,-0.889 3.429,-0.381 ; 2.921,0.381 2.921,0.889 3.429,0.889 3.429,0.381 ; 3.937,-1.143 4.953,-1.143 ; 3.937,1.143 4.953,1.143 ; 4.191,-0.381 4.191,-0.889 4.699,-0.889 4.699,-0.381 ; 4.191,0.381 4.191,0.889 4.699,0.889 4.699,0.381 ; 5.207,-1.143 6.223,-1.143 ; 5.207,1.143 6.223,1.143 ; 5.461,-0.381 5.461,-0.889 5.969,-0.889 5.969,-0.381 ; 5.461,0.381 5.461,0.889 5.969,0.889 5.969,0.381 ; 6.477,-1.143 7.493,-1.143 ; 6.477,1.143 7.493,1.143 ; 6.731,-0.381 6.731,-0.889 7.239,-0.889 7.239,-0.381 ; 6.731,0.381 6.731,0.889 7.239,0.889 7.239,0.381

## 1296-26 [mm]
pads (26):
  rect 0.76x2.05 smd: 1(-7.62,-1.78) 2(-7.62,1.78) 3(-6.35,-1.78) 4(-6.35,1.78) 5(-5.08,-1.78) 6(-5.08,1.78) 7(-3.81,-1.78) 8(-3.81,1.78) 9(-2.54,-1.78) 10(-2.54,1.78) 11(-1.27,-1.78) 12(-1.27,1.78) 13(0,-1.78) 14(0,1.78) 15(1.27,-1.78) 16(1.27,1.78) 17(2.54,-1.78) 18(2.54,1.78) 19(3.81,-1.78) 20(3.81,1.78) 21(5.08,-1.78) 22(5.08,1.78) 23(6.35,-1.78) 24(6.35,1.78) 25(7.62,-1.78) 26(7.62,1.78)
Top Overlay:
  lines w0.102: -8.415,-1.45 -8.415,1.45 ; -8.128,-1.143 -8.128,-0.127 -7.112,-0.127 -7.112,-1.143 ; -8.128,1.143 -8.128,0.127 -7.112,0.127 -7.112,1.143 ; -7.874,-0.381 -7.366,-0.381 ; -7.874,0.381 -7.366,0.381 ; -6.858,-1.143 -6.858,-0.127 -5.842,-0.127 -5.842,-1.143 ; -6.858,1.143 -6.858,0.127 -5.842,0.127 -5.842,1.143 ; -6.604,-0.381 -6.096,-0.381 ; -6.604,0.381 -6.096,0.381 ; -5.588,-1.143 -5.588,-0.127 -4.572,-0.127 -4.572,-1.143 ; -5.588,1.143 -5.588,0.127 -4.572,0.127 -4.572,1.143 ; -5.334,-0.381 -4.826,-0.381 ; -5.334,0.381 -4.826,0.381 ; -4.318,-1.143 -4.318,-0.127 -3.302,-0.127 -3.302,-1.143 ; -4.318,1.143 -4.318,0.127 -3.302,0.127 -3.302,1.143 ; -4.064,-0.381 -3.556,-0.381 ; -4.064,0.381 -3.556,0.381 ; -3.048,-1.143 -3.048,-0.127 -2.032,-0.127 -2.032,-1.143 ; -3.048,1.143 -3.048,0.127 -2.032,0.127 -2.032,1.143 ; -2.794,-0.381 -2.286,-0.381 ; -2.794,0.381 -2.286,0.381 ; -1.778,-1.143 -1.778,-0.127 -0.762,-0.127 -0.762,-1.143 ; -1.778,1.143 -1.778,0.127 -0.762,0.127 -0.762,1.143 ; -1.524,-0.381 -1.016,-0.381 ; -1.524,0.381 -1.016,0.381 ; -0.508,-1.143 -0.508,-0.127 0.508,-0.127 0.508,-1.143 ; -0.508,1.143 -0.508,0.127 0.508,0.127 0.508,1.143 ; -0.254,-0.381 0.254,-0.381 ; -0.254,0.381 0.254,0.381 ; 0.762,-1.143 0.762,-0.127 1.778,-0.127 1.778,-1.143 ; 0.762,1.143 0.762,0.127 1.778,0.127 1.778,1.143 ; 1.016,-0.381 1.524,-0.381 ; 1.016,0.381 1.524,0.381 ; 2.032,-1.143 2.032,-0.127 3.048,-0.127 3.048,-1.143 ; 2.032,1.143 2.032,0.127 3.048,0.127 3.048,1.143 ; 2.286,-0.381 2.794,-0.381 ; 2.286,0.381 2.794,0.381 ; 3.302,-1.143 3.302,-0.127 4.318,-0.127 4.318,-1.143 ; 3.302,1.143 3.302,0.127 4.318,0.127 4.318,1.143 ; 3.556,-0.381 4.064,-0.381 ; 3.556,0.381 4.064,0.381 ; 4.572,-1.143 4.572,-0.127 5.588,-0.127 5.588,-1.143 ; 4.572,1.143 4.572,0.127 5.588,0.127 5.588,1.143 ; 4.826,-0.381 5.334,-0.381 ; 4.826,0.381 5.334,0.381 ; 5.842,-1.143 5.842,-0.127 6.858,-0.127 6.858,-1.143 ; 5.842,1.143 5.842,0.127 6.858,0.127 6.858,1.143 ; 6.096,-0.381 6.604,-0.381 ; 6.096,0.381 6.604,0.381 ; 7.112,-1.143 7.112,-0.127 8.128,-0.127 8.128,-1.143 ; 7.112,1.143 7.112,0.127 8.128,0.127 8.128,1.143 ; 7.366,-0.381 7.874,-0.381 ; 7.366,0.381 7.874,0.381 ; 8.415,-1.45 8.415,1.45
Mechanical 16:
  lines w0.102: -8.415,-1.45 8.415,-1.45 ; -8.415,1.45 8.415,1.45 ; -8.128,-1.143 -7.112,-1.143 ; -8.128,1.143 -7.112,1.143 ; -7.874,-0.381 -7.874,-0.889 -7.366,-0.889 -7.366,-0.381 ; -7.874,0.381 -7.874,0.889 -7.366,0.889 -7.366,0.381 ; -6.858,-1.143 -5.842,-1.143 ; -6.858,1.143 -5.842,1.143 ; -6.604,-0.381 -6.604,-0.889 -6.096,-0.889 -6.096,-0.381 ; -6.604,0.381 -6.604,0.889 -6.096,0.889 -6.096,0.381 ; -5.588,-1.143 -4.572,-1.143 ; -5.588,1.143 -4.572,1.143 ; -5.334,-0.381 -5.334,-0.889 -4.826,-0.889 -4.826,-0.381 ; -5.334,0.381 -5.334,0.889 -4.826,0.889 -4.826,0.381 ; -4.318,-1.143 -3.302,-1.143 ; -4.318,1.143 -3.302,1.143 ; -4.064,-0.381 -4.064,-0.889 -3.556,-0.889 -3.556,-0.381 ; -4.064,0.381 -4.064,0.889 -3.556,0.889 -3.556,0.381 ; -3.048,-1.143 -2.032,-1.143 ; -3.048,1.143 -2.032,1.143 ; -2.794,-0.381 -2.794,-0.889 -2.286,-0.889 -2.286,-0.381 ; -2.794,0.381 -2.794,0.889 -2.286,0.889 -2.286,0.381 ; -1.778,-1.143 -0.762,-1.143 ; -1.778,1.143 -0.762,1.143 ; -1.524,-0.381 -1.524,-0.889 -1.016,-0.889 -1.016,-0.381 ; -1.524,0.381 -1.524,0.889 -1.016,0.889 -1.016,0.381 ; -0.508,-1.143 0.508,-1.143 ; -0.508,1.143 0.508,1.143 ; -0.254,-0.381 -0.254,-0.889 0.254,-0.889 0.254,-0.381 ; -0.254,0.381 -0.254,0.889 0.254,0.889 0.254,0.381 ; 0.762,-1.143 1.778,-1.143 ; 0.762,1.143 1.778,1.143 ; 1.016,-0.381 1.016,-0.889 1.524,-0.889 1.524,-0.381 ; 1.016,0.381 1.016,0.889 1.524,0.889 1.524,0.381 ; 2.032,-1.143 3.048,-1.143 ; 2.032,1.143 3.048,1.143 ; 2.286,-0.381 2.286,-0.889 2.794,-0.889 2.794,-0.381 ; 2.286,0.381 2.286,0.889 2.794,0.889 2.794,0.381 ; 3.302,-1.143 4.318,-1.143 ; 3.302,1.143 4.318,1.143 ; 3.556,-0.381 3.556,-0.889 4.064,-0.889 4.064,-0.381 ; 3.556,0.381 3.556,0.889 4.064,0.889 4.064,0.381 ; 4.572,-1.143 5.588,-1.143 ; 4.572,1.143 5.588,1.143 ; 4.826,-0.381 4.826,-0.889 5.334,-0.889 5.334,-0.381 ; 4.826,0.381 4.826,0.889 5.334,0.889 5.334,0.381 ; 5.842,-1.143 6.858,-1.143 ; 5.842,1.143 6.858,1.143 ; 6.096,-0.381 6.096,-0.889 6.604,-0.889 6.604,-0.381 ; 6.096,0.381 6.096,0.889 6.604,0.889 6.604,0.381 ; 7.112,-1.143 8.128,-1.143 ; 7.112,1.143 8.128,1.143 ; 7.366,-0.381 7.366,-0.889 7.874,-0.889 7.874,-0.381 ; 7.366,0.381 7.366,0.889 7.874,0.889 7.874,0.381

## 1296-28 [mm]
pads (28):
  rect 0.76x2.05 smd: 1(-8.255,-1.78) 2(-8.255,1.78) 3(-6.985,-1.78) 4(-6.985,1.78) 5(-5.715,-1.78) 6(-5.715,1.78) 7(-4.445,-1.78) 8(-4.445,1.78) 9(-3.175,-1.78) 10(-3.175,1.78) 11(-1.905,-1.78) 12(-1.905,1.78) 13(-0.635,-1.78) 14(-0.635,1.78) 15(0.635,-1.78) 16(0.635,1.78) 17(1.905,-1.78) 18(1.905,1.78) 19(3.175,-1.78) 20(3.175,1.78) 21(4.445,-1.78) 22(4.445,1.78) 23(5.715,-1.78) 24(5.715,1.78) 25(6.985,-1.78) 26(6.985,1.78) 27(8.255,-1.78) 28(8.255,1.78)
Top Overlay:
  lines w0.102: -9.05,-1.45 -9.05,1.45 ; -8.763,-1.143 -8.763,-0.127 -7.747,-0.127 -7.747,-1.143 ; -8.763,1.143 -8.763,0.127 -7.747,0.127 -7.747,1.143 ; -8.509,-0.381 -8.001,-0.381 ; -8.509,0.381 -8.001,0.381 ; -7.493,-1.143 -7.493,-0.127 -6.477,-0.127 -6.477,-1.143 ; -7.493,1.143 -7.493,0.127 -6.477,0.127 -6.477,1.143 ; -7.239,-0.381 -6.731,-0.381 ; -7.239,0.381 -6.731,0.381 ; -6.223,-1.143 -6.223,-0.127 -5.207,-0.127 -5.207,-1.143 ; -6.223,1.143 -6.223,0.127 -5.207,0.127 -5.207,1.143 ; -5.969,-0.381 -5.461,-0.381 ; -5.969,0.381 -5.461,0.381 ; -4.953,-1.143 -4.953,-0.127 -3.937,-0.127 -3.937,-1.143 ; -4.953,1.143 -4.953,0.127 -3.937,0.127 -3.937,1.143 ; -4.699,-0.381 -4.191,-0.381 ; -4.699,0.381 -4.191,0.381 ; -3.683,-1.143 -3.683,-0.127 -2.667,-0.127 -2.667,-1.143 ; -3.683,1.143 -3.683,0.127 -2.667,0.127 -2.667,1.143 ; -3.429,-0.381 -2.921,-0.381 ; -3.429,0.381 -2.921,0.381 ; -2.413,-1.143 -2.413,-0.127 -1.397,-0.127 -1.397,-1.143 ; -2.413,1.143 -2.413,0.127 -1.397,0.127 -1.397,1.143 ; -2.159,-0.381 -1.651,-0.381 ; -2.159,0.381 -1.651,0.381 ; -1.143,-1.143 -1.143,-0.127 -0.127,-0.127 -0.127,-1.143 ; -1.143,1.143 -1.143,0.127 -0.127,0.127 -0.127,1.143 ; -0.889,-0.381 -0.381,-0.381 ; -0.889,0.381 -0.381,0.381 ; 0.127,-1.143 0.127,-0.127 1.143,-0.127 1.143,-1.143 ; 0.127,1.143 0.127,0.127 1.143,0.127 1.143,1.143 ; 0.381,-0.381 0.889,-0.381 ; 0.381,0.381 0.889,0.381 ; 1.397,-1.143 1.397,-0.127 2.413,-0.127 2.413,-1.143 ; 1.397,1.143 1.397,0.127 2.413,0.127 2.413,1.143 ; 1.651,-0.381 2.159,-0.381 ; 1.651,0.381 2.159,0.381 ; 2.667,-1.143 2.667,-0.127 3.683,-0.127 3.683,-1.143 ; 2.667,1.143 2.667,0.127 3.683,0.127 3.683,1.143 ; 2.921,-0.381 3.429,-0.381 ; 2.921,0.381 3.429,0.381 ; 3.937,-1.143 3.937,-0.127 4.953,-0.127 4.953,-1.143 ; 3.937,1.143 3.937,0.127 4.953,0.127 4.953,1.143 ; 4.191,-0.381 4.699,-0.381 ; 4.191,0.381 4.699,0.381 ; 5.207,-1.143 5.207,-0.127 6.223,-0.127 6.223,-1.143 ; 5.207,1.143 5.207,0.127 6.223,0.127 6.223,1.143 ; 5.461,-0.381 5.969,-0.381 ; 5.461,0.381 5.969,0.381 ; 6.477,-1.143 6.477,-0.127 7.493,-0.127 7.493,-1.143 ; 6.477,1.143 6.477,0.127 7.493,0.127 7.493,1.143 ; 6.731,-0.381 7.239,-0.381 ; 6.731,0.381 7.239,0.381 ; 7.747,-1.143 7.747,-0.127 8.763,-0.127 8.763,-1.143 ; 7.747,1.143 7.747,0.127 8.763,0.127 8.763,1.143 ; 8.001,-0.381 8.509,-0.381 ; 8.001,0.381 8.509,0.381 ; 9.05,-1.45 9.05,1.45
Mechanical 16:
  lines w0.102: -9.05,-1.45 9.05,-1.45 ; -9.05,1.45 9.05,1.45 ; -8.763,-1.143 -7.747,-1.143 ; -8.763,1.143 -7.747,1.143 ; -8.509,-0.381 -8.509,-0.889 -8.001,-0.889 -8.001,-0.381 ; -8.509,0.381 -8.509,0.889 -8.001,0.889 -8.001,0.381 ; -7.493,-1.143 -6.477,-1.143 ; -7.493,1.143 -6.477,1.143 ; -7.239,-0.381 -7.239,-0.889 -6.731,-0.889 -6.731,-0.381 ; -7.239,0.381 -7.239,0.889 -6.731,0.889 -6.731,0.381 ; -6.223,-1.143 -5.207,-1.143 ; -6.223,1.143 -5.207,1.143 ; -5.969,-0.381 -5.969,-0.889 -5.461,-0.889 -5.461,-0.381 ; -5.969,0.381 -5.969,0.889 -5.461,0.889 -5.461,0.381 ; -4.953,-1.143 -3.937,-1.143 ; -4.953,1.143 -3.937,1.143 ; -4.699,-0.381 -4.699,-0.889 -4.191,-0.889 -4.191,-0.381 ; -4.699,0.381 -4.699,0.889 -4.191,0.889 -4.191,0.381 ; -3.683,-1.143 -2.667,-1.143 ; -3.683,1.143 -2.667,1.143 ; -3.429,-0.381 -3.429,-0.889 -2.921,-0.889 -2.921,-0.381 ; -3.429,0.381 -3.429,0.889 -2.921,0.889 -2.921,0.381 ; -2.413,-1.143 -1.397,-1.143 ; -2.413,1.143 -1.397,1.143 ; -2.159,-0.381 -2.159,-0.889 -1.651,-0.889 -1.651,-0.381 ; -2.159,0.381 -2.159,0.889 -1.651,0.889 -1.651,0.381 ; -1.143,-1.143 -0.127,-1.143 ; -1.143,1.143 -0.127,1.143 ; -0.889,-0.381 -0.889,-0.889 -0.381,-0.889 -0.381,-0.381 ; -0.889,0.381 -0.889,0.889 -0.381,0.889 -0.381,0.381 ; 0.127,-1.143 1.143,-1.143 ; 0.127,1.143 1.143,1.143 ; 0.381,-0.381 0.381,-0.889 0.889,-0.889 0.889,-0.381 ; 0.381,0.381 0.381,0.889 0.889,0.889 0.889,0.381 ; 1.397,-1.143 2.413,-1.143 ; 1.397,1.143 2.413,1.143 ; 1.651,-0.381 1.651,-0.889 2.159,-0.889 2.159,-0.381 ; 1.651,0.381 1.651,0.889 2.159,0.889 2.159,0.381 ; 2.667,-1.143 3.683,-1.143 ; 2.667,1.143 3.683,1.143 ; 2.921,-0.381 2.921,-0.889 3.429,-0.889 3.429,-0.381 ; 2.921,0.381 2.921,0.889 3.429,0.889 3.429,0.381 ; 3.937,-1.143 4.953,-1.143 ; 3.937,1.143 4.953,1.143 ; 4.191,-0.381 4.191,-0.889 4.699,-0.889 4.699,-0.381 ; 4.191,0.381 4.191,0.889 4.699,0.889 4.699,0.381 ; 5.207,-1.143 6.223,-1.143 ; 5.207,1.143 6.223,1.143 ; 5.461,-0.381 5.461,-0.889 5.969,-0.889 5.969,-0.381 ; 5.461,0.381 5.461,0.889 5.969,0.889 5.969,0.381 ; 6.477,-1.143 7.493,-1.143 ; 6.477,1.143 7.493,1.143 ; 6.731,-0.381 6.731,-0.889 7.239,-0.889 7.239,-0.381 ; 6.731,0.381 6.731,0.889 7.239,0.889 7.239,0.381 ; 7.747,-1.143 8.763,-1.143 ; 7.747,1.143 8.763,1.143 ; 8.001,-0.381 8.001,-0.889 8.509,-0.889 8.509,-0.381 ; 8.001,0.381 8.001,0.889 8.509,0.889 8.509,0.381

## 1296-30 [mm]
pads (30):
  rect 0.76x2.05 smd: 1(-8.89,-1.78) 2(-8.89,1.78) 3(-7.62,-1.78) 4(-7.62,1.78) 5(-6.35,-1.78) 6(-6.35,1.78) 7(-5.08,-1.78) 8(-5.08,1.78) 9(-3.81,-1.78) 10(-3.81,1.78) 11(-2.54,-1.78) 12(-2.54,1.78) 13(-1.27,-1.78) 14(-1.27,1.78) 15(0,-1.78) 16(0,1.78) 17(1.27,-1.78) 18(1.27,1.78) 19(2.54,-1.78) 20(2.54,1.78) 21(3.81,-1.78) 22(3.81,1.78) 23(5.08,-1.78) 24(5.08,1.78) 25(6.35,-1.78) 26(6.35,1.78) 27(7.62,-1.78) 28(7.62,1.78) 29(8.89,-1.78) 30(8.89,1.78)
Top Overlay:
  lines w0.102: -9.685,-1.45 -9.685,1.45 ; -9.398,-1.143 -9.398,-0.127 -8.382,-0.127 -8.382,-1.143 ; -9.398,1.143 -9.398,0.127 -8.382,0.127 -8.382,1.143 ; -9.144,-0.381 -8.636,-0.381 ; -9.144,0.381 -8.636,0.381 ; -8.128,-1.143 -8.128,-0.127 -7.112,-0.127 -7.112,-1.143 ; -8.128,1.143 -8.128,0.127 -7.112,0.127 -7.112,1.143 ; -7.874,-0.381 -7.366,-0.381 ; -7.874,0.381 -7.366,0.381 ; -6.858,-1.143 -6.858,-0.127 -5.842,-0.127 -5.842,-1.143 ; -6.858,1.143 -6.858,0.127 -5.842,0.127 -5.842,1.143 ; -6.604,-0.381 -6.096,-0.381 ; -6.604,0.381 -6.096,0.381 ; -5.588,-1.143 -5.588,-0.127 -4.572,-0.127 -4.572,-1.143 ; -5.588,1.143 -5.588,0.127 -4.572,0.127 -4.572,1.143 ; -5.334,-0.381 -4.826,-0.381 ; -5.334,0.381 -4.826,0.381 ; -4.318,-1.143 -4.318,-0.127 -3.302,-0.127 -3.302,-1.143 ; -4.318,1.143 -4.318,0.127 -3.302,0.127 -3.302,1.143 ; -4.064,-0.381 -3.556,-0.381 ; -4.064,0.381 -3.556,0.381 ; -3.048,-1.143 -3.048,-0.127 -2.032,-0.127 -2.032,-1.143 ; -3.048,1.143 -3.048,0.127 -2.032,0.127 -2.032,1.143 ; -2.794,-0.381 -2.286,-0.381 ; -2.794,0.381 -2.286,0.381 ; -1.778,-1.143 -1.778,-0.127 -0.762,-0.127 -0.762,-1.143 ; -1.778,1.143 -1.778,0.127 -0.762,0.127 -0.762,1.143 ; -1.524,-0.381 -1.016,-0.381 ; -1.524,0.381 -1.016,0.381 ; -0.508,-1.143 -0.508,-0.127 0.508,-0.127 0.508,-1.143 ; -0.508,1.143 -0.508,0.127 0.508,0.127 0.508,1.143 ; -0.254,-0.381 0.254,-0.381 ; -0.254,0.381 0.254,0.381 ; 0.762,-1.143 0.762,-0.127 1.778,-0.127 1.778,-1.143 ; 0.762,1.143 0.762,0.127 1.778,0.127 1.778,1.143 ; 1.016,-0.381 1.524,-0.381 ; 1.016,0.381 1.524,0.381 ; 2.032,-1.143 2.032,-0.127 3.048,-0.127 3.048,-1.143 ; 2.032,1.143 2.032,0.127 3.048,0.127 3.048,1.143 ; 2.286,-0.381 2.794,-0.381 ; 2.286,0.381 2.794,0.381 ; 3.302,-1.143 3.302,-0.127 4.318,-0.127 4.318,-1.143 ; 3.302,1.143 3.302,0.127 4.318,0.127 4.318,1.143 ; 3.556,-0.381 4.064,-0.381 ; 3.556,0.381 4.064,0.381 ; 4.572,-1.143 4.572,-0.127 5.588,-0.127 5.588,-1.143 ; 4.572,1.143 4.572,0.127 5.588,0.127 5.588,1.143 ; 4.826,-0.381 5.334,-0.381 ; 4.826,0.381 5.334,0.381 ; 5.842,-1.143 5.842,-0.127 6.858,-0.127 6.858,-1.143 ; 5.842,1.143 5.842,0.127 6.858,0.127 6.858,1.143 ; 6.096,-0.381 6.604,-0.381 ; 6.096,0.381 6.604,0.381 ; 7.112,-1.143 7.112,-0.127 8.128,-0.127 8.128,-1.143 ; 7.112,1.143 7.112,0.127 8.128,0.127 8.128,1.143 ; 7.366,-0.381 7.874,-0.381 ; 7.366,0.381 7.874,0.381 ; 8.382,-1.143 8.382,-0.127 9.398,-0.127 9.398,-1.143 ; 8.382,1.143 8.382,0.127 9.398,0.127 9.398,1.143 ; 8.636,-0.381 9.144,-0.381 ; 8.636,0.381 9.144,0.381 ; 9.685,-1.45 9.685,1.45
Mechanical 16:
  lines w0.102: -9.685,-1.45 9.685,-1.45 ; -9.685,1.45 9.685,1.45 ; -9.398,-1.143 -8.382,-1.143 ; -9.398,1.143 -8.382,1.143 ; -9.144,-0.381 -9.144,-0.889 -8.636,-0.889 -8.636,-0.381 ; -9.144,0.381 -9.144,0.889 -8.636,0.889 -8.636,0.381 ; -8.128,-1.143 -7.112,-1.143 ; -8.128,1.143 -7.112,1.143 ; -7.874,-0.381 -7.874,-0.889 -7.366,-0.889 -7.366,-0.381 ; -7.874,0.381 -7.874,0.889 -7.366,0.889 -7.366,0.381 ; -6.858,-1.143 -5.842,-1.143 ; -6.858,1.143 -5.842,1.143 ; -6.604,-0.381 -6.604,-0.889 -6.096,-0.889 -6.096,-0.381 ; -6.604,0.381 -6.604,0.889 -6.096,0.889 -6.096,0.381 ; -5.588,-1.143 -4.572,-1.143 ; -5.588,1.143 -4.572,1.143 ; -5.334,-0.381 -5.334,-0.889 -4.826,-0.889 -4.826,-0.381 ; -5.334,0.381 -5.334,0.889 -4.826,0.889 -4.826,0.381 ; -4.318,-1.143 -3.302,-1.143 ; -4.318,1.143 -3.302,1.143 ; -4.064,-0.381 -4.064,-0.889 -3.556,-0.889 -3.556,-0.381 ; -4.064,0.381 -4.064,0.889 -3.556,0.889 -3.556,0.381 ; -3.048,-1.143 -2.032,-1.143 ; -3.048,1.143 -2.032,1.143 ; -2.794,-0.381 -2.794,-0.889 -2.286,-0.889 -2.286,-0.381 ; -2.794,0.381 -2.794,0.889 -2.286,0.889 -2.286,0.381 ; -1.778,-1.143 -0.762,-1.143 ; -1.778,1.143 -0.762,1.143 ; -1.524,-0.381 -1.524,-0.889 -1.016,-0.889 -1.016,-0.381 ; -1.524,0.381 -1.524,0.889 -1.016,0.889 -1.016,0.381 ; -0.508,-1.143 0.508,-1.143 ; -0.508,1.143 0.508,1.143 ; -0.254,-0.381 -0.254,-0.889 0.254,-0.889 0.254,-0.381 ; -0.254,0.381 -0.254,0.889 0.254,0.889 0.254,0.381 ; 0.762,-1.143 1.778,-1.143 ; 0.762,1.143 1.778,1.143 ; 1.016,-0.381 1.016,-0.889 1.524,-0.889 1.524,-0.381 ; 1.016,0.381 1.016,0.889 1.524,0.889 1.524,0.381 ; 2.032,-1.143 3.048,-1.143 ; 2.032,1.143 3.048,1.143 ; 2.286,-0.381 2.286,-0.889 2.794,-0.889 2.794,-0.381 ; 2.286,0.381 2.286,0.889 2.794,0.889 2.794,0.381 ; 3.302,-1.143 4.318,-1.143 ; 3.302,1.143 4.318,1.143 ; 3.556,-0.381 3.556,-0.889 4.064,-0.889 4.064,-0.381 ; 3.556,0.381 3.556,0.889 4.064,0.889 4.064,0.381 ; 4.572,-1.143 5.588,-1.143 ; 4.572,1.143 5.588,1.143 ; 4.826,-0.381 4.826,-0.889 5.334,-0.889 5.334,-0.381 ; 4.826,0.381 4.826,0.889 5.334,0.889 5.334,0.381 ; 5.842,-1.143 6.858,-1.143 ; 5.842,1.143 6.858,1.143 ; 6.096,-0.381 6.096,-0.889 6.604,-0.889 6.604,-0.381 ; 6.096,0.381 6.096,0.889 6.604,0.889 6.604,0.381 ; 7.112,-1.143 8.128,-1.143 ; 7.112,1.143 8.128,1.143 ; 7.366,-0.381 7.366,-0.889 7.874,-0.889 7.874,-0.381 ; 7.366,0.381 7.366,0.889 7.874,0.889 7.874,0.381 ; 8.382,-1.143 9.398,-1.143 ; 8.382,1.143 9.398,1.143 ; 8.636,-0.381 8.636,-0.889 9.144,-0.889 9.144,-0.381 ; 8.636,0.381 8.636,0.889 9.144,0.889 9.144,0.381